# Altium schematic symbol library NC_MARKER.SCHLIB: 1 symbol
Pins are listed as number, name and electrical type; pins without a type are passive.

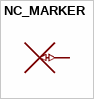
[diagram p0: symbol NC_MARKER]

## NC_MARKER
designator ?
GateName_1: G$1; SymbolName_1: NO_CONNECT_MARKER; DeviceSetName: NC_MARKER; LibraryName: NC_MARKER
pins: ?1 P$1 (io)